# EAGLE library part TERMINAL_TAC_SWITCH (library StudioLab_Grove)
Momentary Switch Button commonly used for reset or general input. Spark Fun Electronics SKU : COM-00097
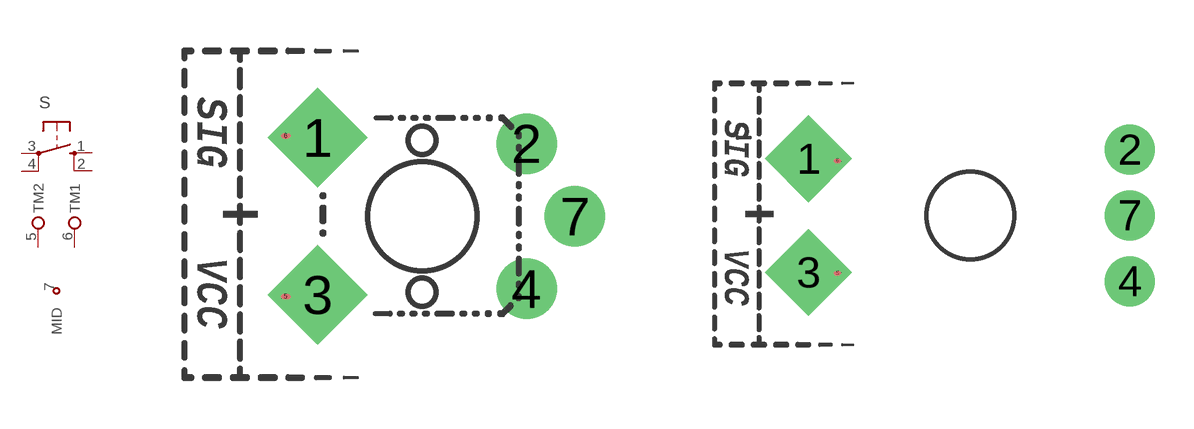
[diagram p0: symbol with the pads of TERMINAL_TACTILE-PTH; footprints TERMINAL_TACTILE-PTH, TERMINAL3.81_TAC12-PTH]

Designator prefix S

## TERMINAL_TAC_SWITCH  [TERMINAL_TACTILE-PTH]
1  3  pas
2  4  pas
3  1  pas
4  2  pas
5  TM2
6  TM1
7  MID

## TERMINAL_TAC_SWITCHTERMINAL3.81_TAC12-PTH  [TERMINAL3.81_TAC12-PTH]
Pads as for TERMINAL_TACTILE-PTH

## Footprint TERMINAL_TACTILE-PTH (pad centres in mm)
OMRON SWITCH
drill 1.4 pad 2.2 square: 1 -3.251,2.448; 3 -3.251,-2.448
drill 1.016 pad 1.88: 2 3.251,2.261; 4 3.251,-2.261; 7 4.75,0
smd 0.305 x 0.152: 5 -4.25,-2.5; 6 -4.25,2.5

## Footprint TERMINAL3.81_TAC12-PTH (pad centres in mm)
OMRON SWITCH
drill 1.6 pad 2.2 square: 1 -3.75,2.211; 3 -3.75,-2.211
drill 1.1 pad 1.94: 2 8.75,2.562; 4 8.75,-2.562; 7 8.75,0
smd 0.305 x 0.152: 5 -2.625,-2.25; 6 -2.625,2.125